# EAGLE library part FUSEBLOCK-12 (library igvc)
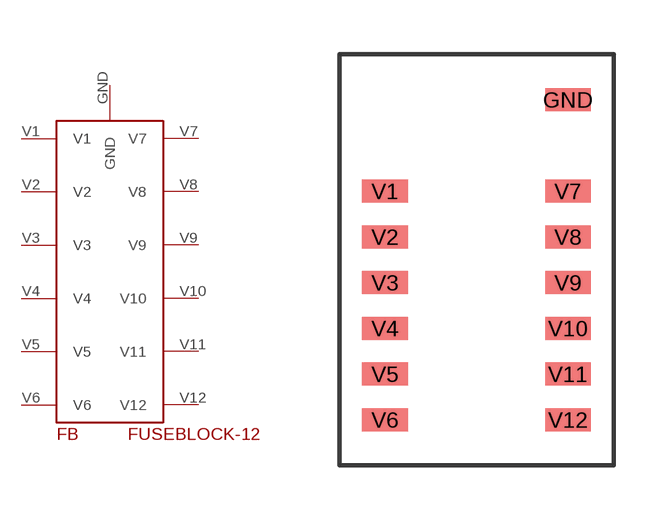
[diagram p0: symbol with the pads of FUSEBLOCK-12PT; footprint FUSEBLOCK-12PT]

Designator prefix FB

## FUSEBLOCK-12  [FUSEBLOCK-12PT]
GND  GND  pwr
V1  V1  pwr
V2  V2  pwr
V3  V3  pwr
V4  V4  pwr
V5  V5  pwr
V6  V6  pwr
V7  V7  pwr
V8  V8  pwr
V9  V9  pwr
V10  V10  pwr
V11  V11  pwr
V12  V12  pwr

## Footprint FUSEBLOCK-12PT (pad centres in mm)
smd 1.27 x 0.635: GND 2.54,3.81; V1 -2.54,1.27; V2 -2.54,0; V3 -2.54,-1.27; V4 -2.54,-2.54; V5 -2.54,-3.81; V6 -2.54,-5.08; V7 2.54,1.27; V8 2.54,0; V9 2.54,-1.27; V10 2.54,-2.54; V11 2.54,-3.81; V12 2.54,-5.08